# Altium footprint library ESC.PcbLib: 17 footprints (part 2 of 2)
Each footprint in its own frame and in the unit in brackets; x right, y up, seen from the top. Pads: shape width x height; smd on the part's side, far side on the other; paste and mask are expansions set on the pad; w line width, h text height; cw(c..) or ccw(c..) is an arc to the next point about the centre after c.
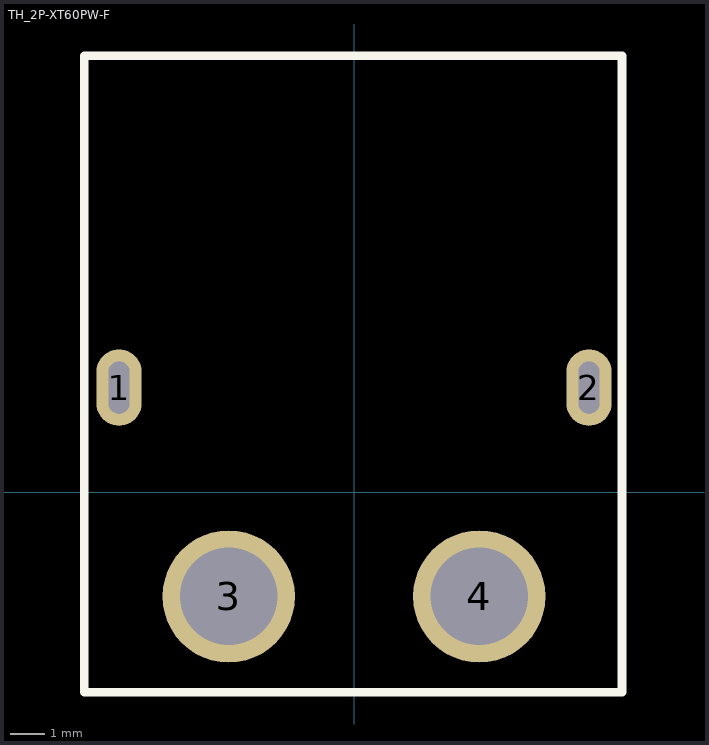
[diagram p1: the footprint, top view; thin cyan lines are the x and y axes]

## TH_2P-XT60PW-F [mm]
pads (4):
  rrect100% 1.3x2.2 hole 0.6 slot 1.5 at 90 deg: 1(-6.75,3) 2(6.75,3)
  round 3.8 hole 2.8: 3(-3.6,-3) 4(3.6,-3)
Top Overlay:
  lines w0.25: -7.75,-5.75 -7.75,12.53 7.7,12.53 7.7,-5.75 -7.75,-5.75
Mechanical 6:
  circle w0.06: c-7.75,-4.8 r0.03
  circle w1.25: c3.6,-3 r0.63
  circle w1.25: c-3.6,-3 r0.63
3D body "TH_2P-XT60PW-F.step": height 8.4, standoff -4, extent -7.75,-4.8 7.75,12.4